# Altium schematic symbol library KF142R-5.08-4P.Schlib: 1 symbol
Pins are listed as number, name and electrical type; pins without a type are passive.

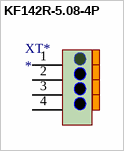
[diagram p0: symbol KF142R-5.08-4P]

## KF142R-5.08-4P
designator XT*
P-5.08mm Spring Clamp System Terminal Block RoHS; ComponentLink1Description: LCSC - Cixi Kefa Elec KF142R-5.08-4P; ComponentLink1URL: https://lcsc.com/product-detail/Spring-Clamp-System-Terminal-Block_Cixi-Kefa-Elec-KF142R-5-08-4P_C475146.html; LCSC Part #: C475146
footprint KF142R-5.08-4P
pins: 1, 2, 3, 4